# Altium footprint library JACK-FEMALE-STD-2.5.PcbLib: 1 footprints
Each footprint in its own frame and in the unit in brackets; x right, y up, seen from the top. Pads: shape width x height; smd on the part's side, far side on the other; paste and mask are expansions set on the pad; w line width, h text height; cw(c..) or ccw(c..) is an arc to the next point about the centre after c.
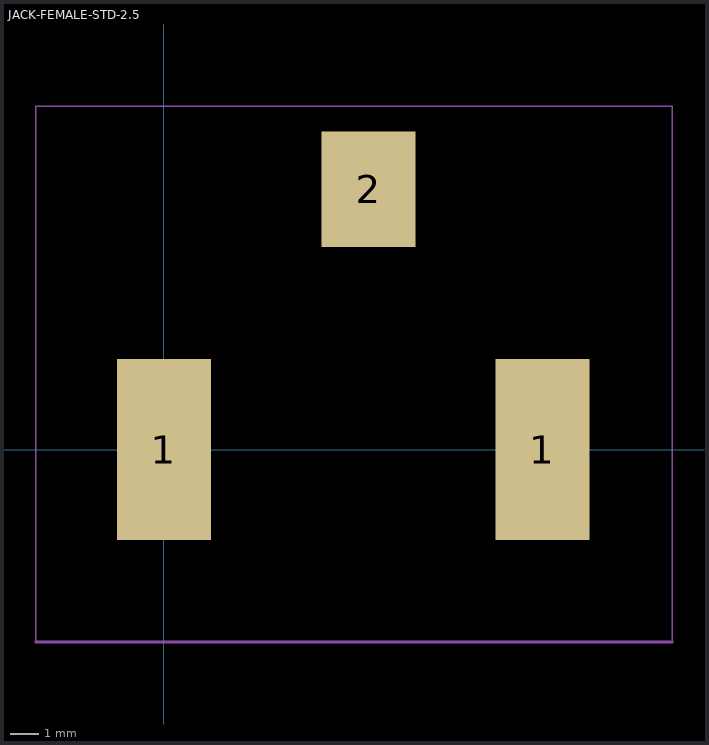
[diagram p0: the footprint, top view; thin cyan lines are the x and y axes]

## JACK-FEMALE-STD-2.5 [mm]
height 11
pads (3):
  rect 3.3x6.35 smd: 1(0,0) 1(13.29,0)
  rect 3.3x4.06 smd: 2(7.19,9.14)
Mechanical 5:
  lines w0.05: -4.5,-6.76 -4.5,12.065 17.852,12.065 17.852,-6.76
  lines w0.1: -4.5,-6.76 17.852,-6.76